# Altium footprint library Signetik-passives.PcbLib: 52 footprints (part 1 of 4)
Each footprint in its own frame and in the unit in brackets; x right, y up, seen from the top. Pads: shape width x height; smd on the part's side, far side on the other; paste and mask are expansions set on the pad; w line width, h text height; cw(c..) or ccw(c..) is an arc to the next point about the centre after c.
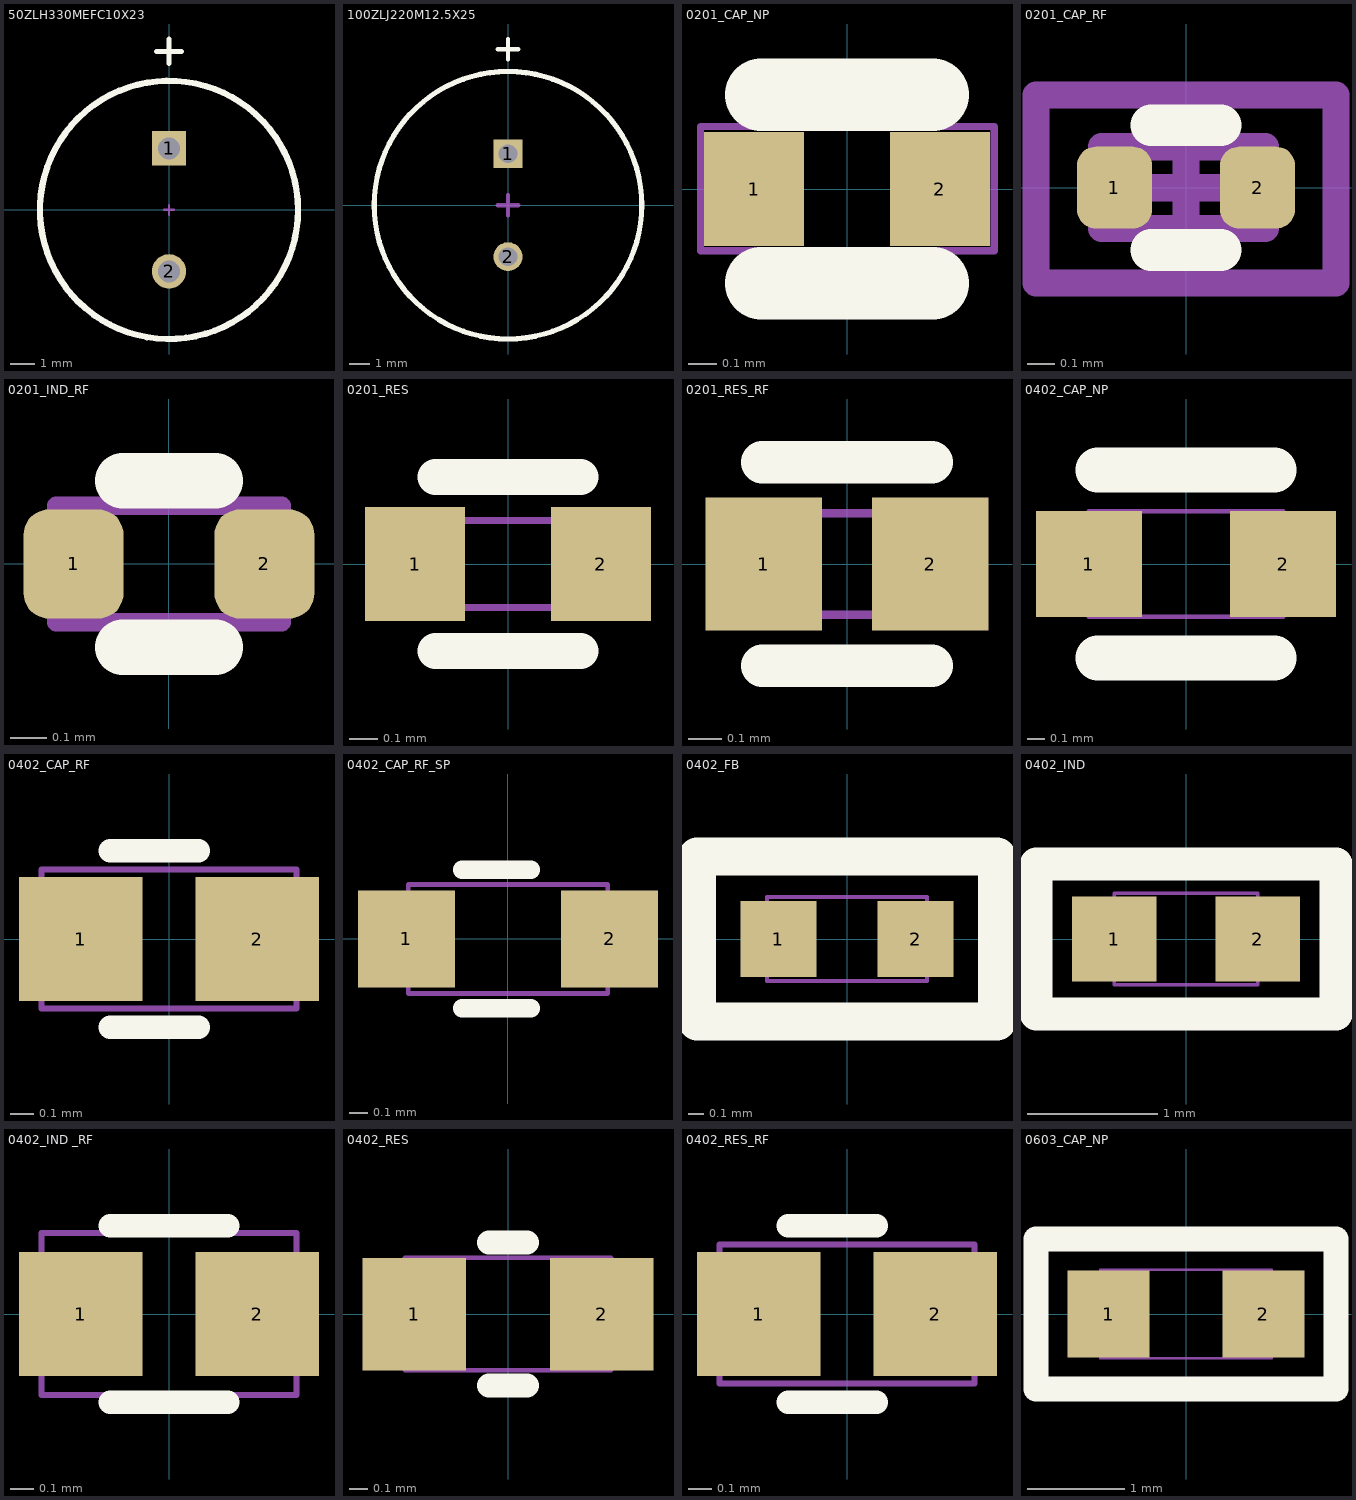
[diagram p0: the footprints below, top view; thin cyan lines are the x and y axes]

## 50ZLH330MEFC10X23 [mm] "330uF 50V Aluminum Electroltic Cap Radial, can 10000 Hrs @ 105C"
height 23
pads (2):
  rect 1.4x1.4 hole 0.9: 1(0,2.5)
  round 1.4 hole 0.9: 2(0,-2.5)
Top Overlay:
  circle w0.254: c0,0 r5.25
  lines w0.2: -0.5,6.45 0.5,6.45 ; 0,5.95 0,6.95
Top Component Center:
  lines w0.1: -0.2,0 0.2,0 ; 0,-0.2 0,0.2
3D body: height 23, standoff 0, extent -5.25,-5.247 5.25,5.247

## 100ZLJ220M12.5X25 [mm] "100ZLJ220M12.5X25"
height 25
pads (2):
  rect 1.4x1.4 hole 0.9: 1(0,2.5)
  round 1.4 hole 0.9: 2(0,-2.5)
Top Overlay:
  circle w0.254: c0,0 r6.5
  lines w0.2: -0.5,7.575 0.5,7.575 ; 0,7.075 0,8.075
Top Component Center:
  lines w0.2: -0.5,0 0.5,0 0,0 0,0.5 0,-0.5
3D body: height 25, standoff 0, extent -6.25,-6.247 6.25,6.247

## 0201_CAP_NP [mm] "0201 (0603 metric) SMD Capacitor"
pads (2):
  rect 0.35x0.4 smd: 1(-0.325,0) 2(0.325,0)
Top Overlay:
  lines w0.254: -0.3,-0.33 0.3,-0.33 ; -0.3,0.33 0.3,0.33
Mechanical 13:
  lines w0.025: -0.513,-0.216 0.516,-0.216 0.516,0.218 -0.513,0.218 -0.513,-0.216
3D body "CAP 0201.STEP": height 0.22, standoff -0.08, extent -0.3,-0.15 0.3,0.15

## 0201_CAP_RF [mm]
pads (2):
  rrect50% 0.275x0.3 smd mask+0.064: 1(-0.262,0) 2(0.262,0)
Top Overlay:
  lines w0.152: -0.127,-0.229 0.127,-0.229 ; -0.127,0.229 0.127,0.229
Mechanical 13:
  lines w0.1: -0.31,-0.15 0.29,-0.15 0.29,0.15 -0.31,0.15 -0.31,-0.15
  text ".Designator" at -0.279,-0.076 h0.25
Mechanical 15:
  lines w0.1: -0.2,0 0.2,0 ; 0,-0.2 0,0.2 ; -0.55,-0.35 0.55,-0.35 0.55,0.34 -0.55,0.34 -0.55,-0.35
3D body "User Library-cap_0201.STEP": height 0.22, standoff -0.08, extent -0.31,-0.15 0.29,0.15

## 0201_IND_RF [mm]
pads (2):
  rrect50% 0.275x0.3 smd mask+0.064: 1(-0.262,0) 2(0.262,0)
Top Overlay:
  lines w0.152: -0.127,-0.229 0.127,-0.229 ; -0.127,0.229 0.127,0.229
Mechanical 13:
  text ".Designator" at -0.102,-0.076 h0.25
Mechanical 15:
  lines w0.05: -0.31,-0.16 0.31,-0.16 0.31,0.16 -0.31,0.16 -0.31,-0.16
3D body "FER 0201.STEP": height 0.22, standoff -0.08, extent -0.3,-0.15 0.3,0.15

## 0201_RES [mm] "0201 (0603 metric) SMD Resistor"
pads (2):
  rect 0.35x0.4 smd mask+0.025: 1(-0.325,0) 2(0.325,0)
Top Overlay:
  lines w0.127: -0.254,-0.305 0.254,-0.305 ; -0.254,0.305 0.254,0.305
Mechanical 13:
  lines w0.025: -0.305,-0.152 0.305,-0.152 0.305,0.152 -0.305,0.152 -0.305,-0.152
  text ".Designator" at 0.516,-0.216 h0.76
3D body "RES 0201.STEP": height 0.14, standoff -0.08, extent -0.3,-0.15 0.3,0.15

## 0201_RES_RF [mm] "0201 (0603 metric) SMD Resistor"
pads (2):
  rect 0.35x0.4 smd mask+0.025: 1(-0.25,0) 2(0.25,0)
Top Overlay:
  lines w0.127: -0.254,-0.305 0.254,-0.305 ; -0.254,0.305 0.254,0.305
Mechanical 13:
  lines w0.025: -0.305,-0.152 0.305,-0.152 0.305,0.152 -0.305,0.152 -0.305,-0.152
  text ".Designator" at 0.516,-0.216 h0.76
3D body "RES 0201.STEP": height 0.14, standoff -0.08, extent -0.3,-0.15 0.3,0.15

## 0402_CAP_NP [mm] "0402 (1005) SMD Capacitor"
height 0.55
pads (2):
  rect 0.6x0.6 smd: 1(-0.55,0) 2(0.55,0)
Top Overlay:
  lines w0.254: -0.5,-0.533 0.5,-0.533 ; -0.5,0.533 0.5,0.533
Mechanical 13:
  lines w0.025: -0.55,-0.3 0.55,-0.3 0.55,0.3 -0.55,0.3 -0.55,-0.3
3D body "CAP 0402.STEP": height 0.44, standoff -0.08, extent -0.5,-0.27 0.5,0.254

## 0402_CAP_RF [mil] "0402 (1005) SMD Capacitor"
height 21.65
pads (2):
  rect 21x21 smd mask+2: 1(-15,0) 2(15,0)
Top Overlay:
  lines w3.94: -10,-15 5,-15 ; -10,15 5,15
Mechanical 13:
  lines w1: -21.65,-11.81 21.65,-11.81 21.65,11.81 -21.65,11.81 -21.65,-11.81
  text ".Designator" at 21.65,-11.81 h30
3D body "CAP 0402.STEP": height 17.32, standoff -3.31, extent -19.68,-10.63 19.69,10

## 0402_CAP_RF_SP [mil] "0402 (1005) SMD Capacitor"
height 21.65
pads (2):
  rect 21x21 smd mask+2: 1(-22,0) 2(22,0)
Top Overlay:
  lines w3.94: -10,-15 5,-15 ; -10,15 5,15
Mechanical 13:
  lines w1: -21.65,-11.81 -21.65,11.81 21.65,11.81 21.65,-11.81 -21.65,-11.81
  text ".Designator" at 21.65,-11.81 h30
3D body "CAP 0402.STEP": height 17.32, standoff -3.31, extent -19.68,-10.63 19.69,10

## 0402_FB [mil] "0402 (1005) SMD Ferrite Bead"
height 22
pads (2):
  rect 20x20 smd: 1(-18,0) 2(18,0)
Top Overlay:
  lines w10: -39.37,-21.65 39.37,-21.65 39.37,21.65 -39.37,21.65 -39.37,-21.65
Mechanical 13:
  lines w1: -21,-11 21,-11 21,11 -21,11 -21,-11
  text ".Designator" at 21,-11 h30
3D body "FER 0402.STEP": height 17.63, standoff -3, extent -18.38,-10.21 20.99,10.42

## 0402_IND [mm] "0402 (1005) SMD Inductor"
height 0.6
pads (2):
  rect 0.65x0.65 smd: 1(-0.55,0) 2(0.55,0)
Top Overlay:
  lines w0.254: -1.15,-0.575 -1.15,0.575 1.15,0.575 1.15,-0.575 -1.15,-0.575
Mechanical 13:
  lines w0.025: -0.55,-0.35 -0.55,0.35 0.55,0.35 0.55,-0.35 -0.55,-0.35
  text ".Designator" at 0.55,-0.35 h0.76
3D body "NTC 0402.STEP": height 0.52, standoff 0, extent -0.5,-0.262 0.5,0.262

## 0402_IND _RF [mil] "0402 (1005) SMD Inductor"
height 23.62
pads (2):
  rect 21x21 smd mask+2: 1(-15,0) 2(15,0)
Top Overlay:
  lines w3.94: -10,-15 10,-15 ; -10,15 10,15
Mechanical 13:
  lines w1: -21.65,-13.78 21.65,-13.78 21.65,13.78 -21.65,13.78 -21.65,-13.78
  text ".Designator" at 21.65,-13.78 h30
3D body "NTC 0402.STEP": height 17.63, standoff -3, extent -19.68,-10.31 19.69,10.32

## 0402_RES [mm] "0402 (1005) SMD Resistor"
height 0.55
pads (2):
  rect 0.55x0.6 smd: 1(-0.5,0) 2(0.5,0)
Top Overlay:
  lines w0.127: -0.102,-0.381 0.102,-0.381 ; -0.102,0.381 0.102,0.381
Mechanical 13:
  lines w0.025: -0.55,-0.3 -0.55,0.3 0.55,0.3 0.55,-0.3 -0.55,-0.3
  text ".Designator" at 0.55,-0.3 h0.76
3D body "RES 0402.STEP": height 0.27, standoff -0.08, extent -0.5,-0.25 0.5,0.25

## 0402_RES_RF [mil] "0402 (1005) SMD Capacitor"
height 21.65
pads (2):
  rect 21x21 smd mask+2: 1(-15,0) 2(15,0)
Top Overlay:
  lines w3.94: -10,-15 5,-15 ; -10,15 5,15
Mechanical 13:
  lines w1: -21.65,-11.81 -21.65,11.81 21.65,11.81 21.65,-11.81 -21.65,-11.81
  text ".Designator" at 21.65,-11.81 h30
3D body "RES 0402.STEP": height 10.78, standoff -3, extent -19.68,-9.84 19.69,9.85

## 0603_CAP_NP [mm] "0603 (1608) SMD Capacitor"
height 0.95
pads (2):
  rect 0.85x0.9 smd: 1(-0.8,0) 2(0.8,0)
Top Overlay:
  lines w0.254: -1.55,-0.775 -1.55,0.775 1.55,0.775 1.55,-0.775 -1.55,-0.775
Mechanical 13:
  lines w0.025: -0.885,-0.455 0.885,-0.455 0.885,0.455 -0.885,0.455 -0.885,-0.455
  text ".Designator" at 0.885,-0.455 h0.76
3D body "CAP 0603.STEP": height 0.75, standoff -0.08, extent -0.8,-0.412 0.8,0.412